# Altium schematic symbol library Inductor_SMD_Pulse.Schlib: 1 symbol
Pins are listed as number, name and electrical type; pins without a type are passive.

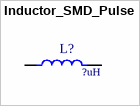
[diagram p0: symbol Inductor_SMD_Pulse]

## Inductor_SMD_Pulse
designator L?  Inductance: ?uH
100 uH +/- 20% 3.5A unshielded 405 mohm max
footprint SMD_INDUCTOR_12.8X12.8X7mm
pins: 1, 2